# Altium footprint library PG-VSON-10-4.PcbLib: 1 footprints
Each footprint in its own frame and in the unit in brackets; x right, y up, seen from the top. Pads: shape width x height; smd on the part's side, far side on the other; paste and mask are expansions set on the pad; w line width, h text height; cw(c..) or ccw(c..) is an arc to the next point about the centre after c.
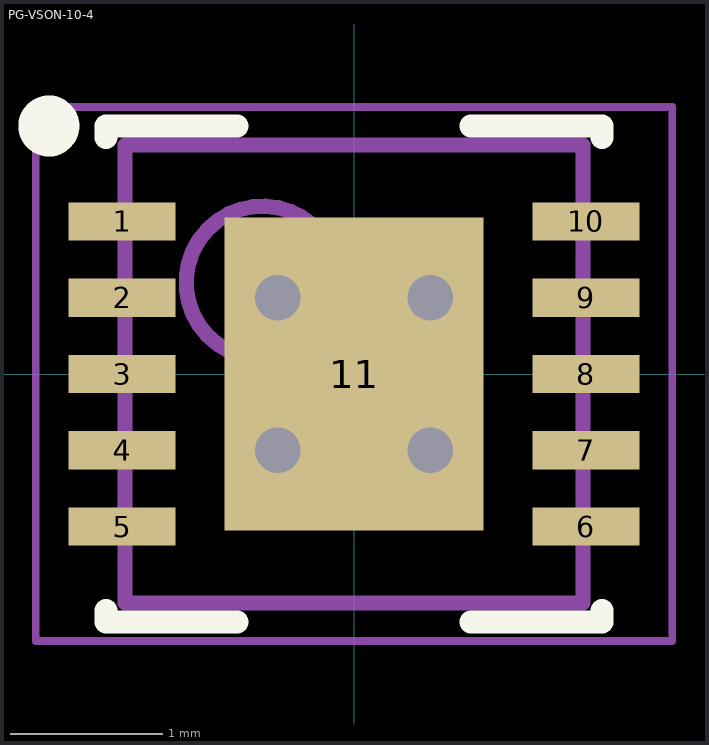
[diagram p0: the footprint, top view; thin cyan lines are the x and y axes]

## PG-VSON-10-4 [mm] "SON, 10-Leads, Body 3,00x3,00mm, Pitch 0,50mm, Thermal Pad 2,05x1,70mm, IPC Medium Density"
height 0.9
pads (11):
  rect 0.7x0.25 smd mask+0.05: 1(-1.52,1) 2(-1.52,0.5) 3(-1.52,0) 4(-1.52,-0.5) 5(-1.52,-1) 6(1.52,-1) 7(1.52,-0.5) 8(1.52,0) 9(1.52,0.5) 10(1.52,1)
  rect 1.7x2.05 smd mask+0.05: 11(0,0)
via 0.5,-0.5 diameter 0.6 hole 0.3
via -0.5,-0.5 diameter 0.6 hole 0.3
via -0.5,0.5 diameter 0.6 hole 0.3
via 0.5,0.5 diameter 0.6 hole 0.3
Top Overlay:
  circle w0.3: c-2,1.625 r0.05
  lines w0.15: -1.625,-1.55 -1.625,-1.625 -0.765,-1.625 ; -1.625,1.55 -1.625,1.625 -0.765,1.625 ; 0.765,-1.625 1.625,-1.625 1.625,-1.55 ; 0.765,1.625 1.625,1.625 1.625,1.55
Top Assembly:
  circle w0.1: c-0.6,0.6 r0.5
  lines w0.1: -1.5,-1.5 1.5,-1.5 1.5,1.5 -1.5,1.5 -1.5,-1.5
Top Courtyard:
  lines w0.05: -2.085,-1.75 2.085,-1.75 2.085,1.75 -2.085,1.75 -2.085,-1.75
  lines w0.1: -0.5,0 0.5,0 ; 0,-0.5 0,0.5
3D body "PG-VSON-10-4.step": height 0.9, standoff 0, extent -1.5,-1.5 1.5,1.5